# Altium footprint library elements.PcbLib: 2 footprints
Each footprint in its own frame and in the unit in brackets; x right, y up, seen from the top. Pads: shape width x height; smd on the part's side, far side on the other; paste and mask are expansions set on the pad; w line width, h text height; cw(c..) or ccw(c..) is an arc to the next point about the centre after c.
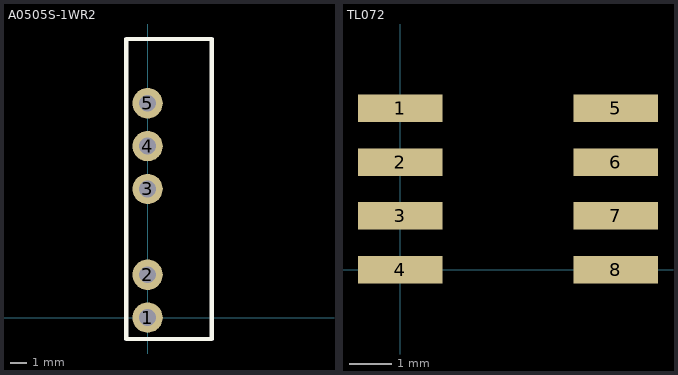
[diagram p0: the footprints below, top view; thin cyan lines are the x and y axes]

## A0505S-1WR2 [mm]
pads (5):
  round 1.8 hole 1: 1(0,0) 2(0,2.54) 3(0,7.62) 4(0,10.16) 5(0,12.7)
Top Overlay:
  lines w0.254: -1.27,-1.27 -1.27,13.97 -1.27,16.51 3.81,16.51 3.81,-1.27 -1.27,-1.27

## TL072 [mm]
pads (8):
  rect 2x0.65 smd: 1(0,3.81) 2(0,2.54) 3(0,1.27) 4(0,0) 5(5.08,3.81) 6(5.08,2.54) 7(5.08,1.27) 8(5.08,0)